# Altium schematic symbol library B340A-13-F.SchLib: 1 symbol
Pins are listed as number, name and electrical type; pins without a type are passive.

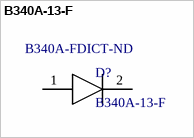
[diagram p0: symbol B340A-13-F]

## B340A-13-F
designator D?  Supplier Part Number 1: B340A-FDICT-ND
Schottky diode; Supplier 1: Digi-Key
footprint B340A-13-F
pins: 1, 2